# Altium schematic symbol library Banana-3.5-M.Schlib: 1 symbol
Pins are listed as number, name and electrical type; pins without a type are passive.

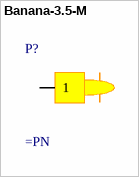
[diagram p0: symbol Banana-3.5-M]

## Banana-3.5-M
designator P?
Banana 3.5mm Male
pins: 1